# Altium schematic symbol library Diodes.SchLib: 448 symbols (part 2 of 10)
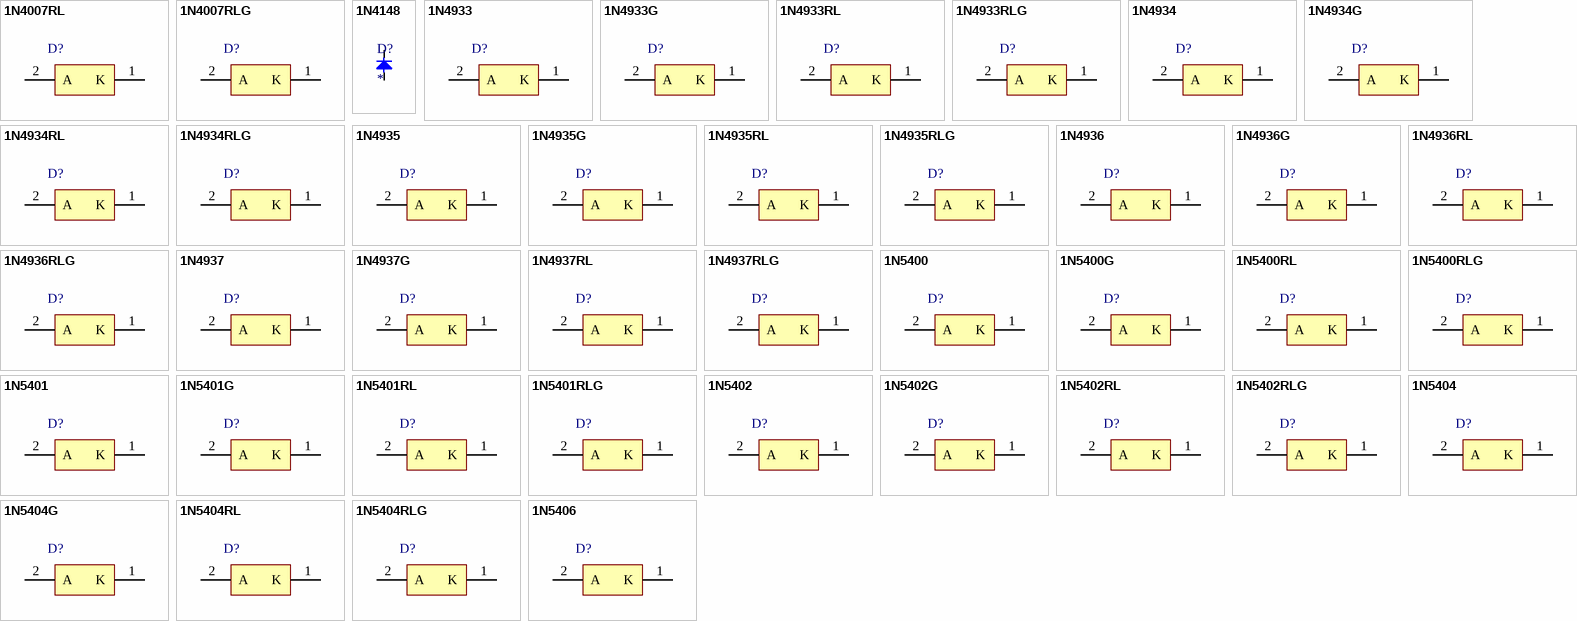
[diagram p12: symbols 1N4007RL to 1N5406]

## 1N4934RL
designator D?
Fast-Recovery Rectifier, 2-Pin Axial_Lead, Pb-Free, Tape and Reel; Manufacturer: On Semiconductor; PartNumber: 1N4934RL; IFSM Max (A): 30; IO(rec) Max (A): 1; Type: Fast Recovery; VRRM Max (V): 100; DatasheetVersion: Rev. 12; PackageVersion: Rev. U, 02/2005; PackageReference: AXIAL_LEAD-2-59-10; PackageDescription: 2-Pin, Axial Lead, Diameter 2.35 mm; Supplier 1: Digi-Key; Supplier Part Number 1: 1N4934RLOSTR-ND; Supplier 2: Digi-Key; Supplier Part Number 2: 1N4934RLOSCT-ND; Supplier 3: Mouser; Supplier Part Number 3: 863-1N4934RL; Packing: Tape and Reel; RoHS: TRUE; Mounting Technology: Through Hole; ComponentLink1Description: Manufacturer URL; ComponentLink1URL: http://www.onsemi.com/; ComponentLink2Description: Datasheet; ComponentLink2URL: http://www.onsemi.com/pub_link/Collateral/1N4933-D.PDF; ComponentLink3Description: Package Specification; ComponentLink3URL: http://www.onsemi.cn/pub_link/Collateral/59-10.PDF
footprint ONSC-AXIAL_LEAD-2-59-10_P (AXIAL, 2-Leads, Diameter 2.35mm)
pins: 1 K, 2 A

## 1N4934RLG
designator D?
Fast-Recovery Rectifier, 2-Pin Axial_Lead, Pb-Free, Tape and Reel; Manufacturer: On Semiconductor; PartNumber: 1N4934RLG; IFSM Max (A): 30; IO(rec) Max (A): 1; Type: Fast Recovery; VRRM Max (V): 100; DatasheetVersion: Rev. 12; PackageVersion: Rev. U, 02/2005; PackageReference: AXIAL_LEAD-2-59-10; PackageDescription: 2-Pin, Axial Lead, Diameter 2.35 mm; Supplier 1: Digi-Key; Supplier Part Number 1: 1N4934RLGOSTR-ND; Supplier 2: Digi-Key; Supplier Part Number 2: 1N4934RLGOSCT-ND; Supplier 3: Farnell; Supplier Part Number 3: 1278509; Supplier 4: Farnell; Supplier Part Number 4: 2369362; Supplier 5: Newark; Supplier Part Number 5: 84K8830; Supplier 6: Mouser; Supplier Part Number 6: 863-1N4934RLG; Packing: Tape and Reel; RoHS: TRUE; Mounting Technology: Through Hole; ComponentLink1Description: Manufacturer URL; ComponentLink1URL: http://www.onsemi.com/; ComponentLink2Description: Datasheet; ComponentLink2URL: http://www.onsemi.com/pub_link/Collateral/1N4933-D.PDF; ComponentLink3Description: Package Specification; ComponentLink3URL: http://www.onsemi.cn/pub_link/Collateral/59-10.PDF
footprint ONSC-AXIAL_LEAD-2-59-10_P (AXIAL, 2-Leads, Diameter 2.35mm)
pins: 1 K, 2 A

## 1N4935
designator D?
Fast-Recovery Rectifier, 2-Pin Axial_Lead, Pb-Free, Bulk Bag; Manufacturer: On Semiconductor; PartNumber: 1N4935; IFSM Max (A): 30; IO(rec) Max (A): 1; Type: Fast Recovery; VRRM Max (V): 200; DatasheetVersion: Rev. 12; PackageVersion: Rev. U, 02/2005; PackageReference: AXIAL_LEAD-2-59-10; PackageDescription: 2-Pin, Axial Lead, Diameter 2.35 mm; Supplier 1: Digi-Key; Supplier Part Number 1: 1N4935OS-ND; Packing: Bulk Bag; RoHS: TRUE; Mounting Technology: Through Hole; ComponentLink1Description: Manufacturer URL; ComponentLink1URL: http://www.onsemi.com/; ComponentLink2Description: Datasheet; ComponentLink2URL: http://www.onsemi.com/pub_link/Collateral/1N4933-D.PDF; ComponentLink3Description: Package Specification; ComponentLink3URL: http://www.onsemi.cn/pub_link/Collateral/59-10.PDF
footprint ONSC-AXIAL_LEAD-2-59-10_P (AXIAL, 2-Leads, Diameter 2.35mm)
pins: 1 K, 2 A

## 1N4935G
designator D?
Fast-Recovery Rectifier, 2-Pin Axial_Lead, Pb-Free, Bulk Bag; Manufacturer: On Semiconductor; PartNumber: 1N4935G; IFSM Max (A): 30; IO(rec) Max (A): 1; Type: Fast Recovery; VRRM Max (V): 200; DatasheetVersion: Rev. 12; PackageVersion: Rev. U, 02/2005; PackageReference: AXIAL_LEAD-2-59-10; PackageDescription: 2-Pin, Axial Lead, Diameter 2.35 mm; Supplier 1: Digi-Key; Supplier Part Number 1: 1N4935GOS-ND; Supplier 2: Farnell; Supplier Part Number 2: 1126305; Supplier 3: Newark; Supplier Part Number 3: 42K2837; Supplier 4: Mouser; Supplier Part Number 4: 863-1N4935G; Packing: Bulk Bag; RoHS: TRUE; Mounting Technology: Through Hole; ComponentLink1Description: Manufacturer URL; ComponentLink1URL: http://www.onsemi.com/; ComponentLink2Description: Datasheet; ComponentLink2URL: http://www.onsemi.com/pub_link/Collateral/1N4933-D.PDF; ComponentLink3Description: Package Specification; ComponentLink3URL: http://www.onsemi.cn/pub_link/Collateral/59-10.PDF
footprint ONSC-AXIAL_LEAD-2-59-10_P (AXIAL, 2-Leads, Diameter 2.35mm)
pins: 1 K, 2 A

## 1N4935RL
designator D?
Fast-Recovery Rectifier, 2-Pin Axial_Lead, Pb-Free, Tape and Reel; Manufacturer: On Semiconductor; PartNumber: 1N4935RL; IFSM Max (A): 30; IO(rec) Max (A): 1; Type: Fast Recovery; VRRM Max (V): 200; DatasheetVersion: Rev. 12; PackageVersion: Rev. U, 02/2005; PackageReference: AXIAL_LEAD-2-59-10; PackageDescription: 2-Pin, Axial Lead, Diameter 2.35 mm; Supplier 1: Digi-Key; Supplier Part Number 1: 1N4935RLOSTR-ND; Supplier 2: Digi-Key; Supplier Part Number 2: 1N4935RLOSCT-ND; Supplier 3: Mouser; Supplier Part Number 3: 863-1N4935RL; Packing: Tape and Reel; RoHS: TRUE; Mounting Technology: Through Hole; ComponentLink1Description: Manufacturer URL; ComponentLink1URL: http://www.onsemi.com/; ComponentLink2Description: Datasheet; ComponentLink2URL: http://www.onsemi.com/pub_link/Collateral/1N4933-D.PDF; ComponentLink3Description: Package Specification; ComponentLink3URL: http://www.onsemi.cn/pub_link/Collateral/59-10.PDF
footprint ONSC-AXIAL_LEAD-2-59-10_P (AXIAL, 2-Leads, Diameter 2.35mm)
pins: 1 K, 2 A

## 1N4935RLG
designator D?
Fast-Recovery Rectifier, 2-Pin Axial_Lead, Pb-Free, Tape and Reel; Manufacturer: On Semiconductor; PartNumber: 1N4935RLG; IFSM Max (A): 30; IO(rec) Max (A): 1; Type: Fast Recovery; VRRM Max (V): 200; DatasheetVersion: Rev. 12; PackageVersion: Rev. U, 02/2005; PackageReference: AXIAL_LEAD-2-59-10; PackageDescription: 2-Pin, Axial Lead, Diameter 2.35 mm; Supplier 1: Digi-Key; Supplier Part Number 1: 1N4935RLGOSTR-ND; Supplier 2: Digi-Key; Supplier Part Number 2: 1N4935RLGOSCT-ND; Supplier 3: Newark; Supplier Part Number 3: 42K2838; Supplier 4: Newark; Supplier Part Number 4: 84K8831; Supplier 5: Mouser; Supplier Part Number 5: 863-1N4935RLG; Packing: Tape and Reel; RoHS: TRUE; Mounting Technology: Through Hole; ComponentLink1Description: Manufacturer URL; ComponentLink1URL: http://www.onsemi.com/; ComponentLink2Description: Datasheet; ComponentLink2URL: http://www.onsemi.com/pub_link/Collateral/1N4933-D.PDF; ComponentLink3Description: Package Specification; ComponentLink3URL: http://www.onsemi.cn/pub_link/Collateral/59-10.PDF
footprint ONSC-AXIAL_LEAD-2-59-10_P (AXIAL, 2-Leads, Diameter 2.35mm)
pins: 1 K, 2 A

## 1N4936
designator D?
Fast-Recovery Rectifier, 2-Pin Axial_Lead, Pb-Free, Bulk Bag; Manufacturer: On Semiconductor; PartNumber: 1N4936; IFSM Max (A): 30; IO(rec) Max (A): 1; Type: Fast Recovery; VRRM Max (V): 400; DatasheetVersion: Rev. 12; PackageVersion: Rev. U, 02/2005; PackageReference: AXIAL_LEAD-2-59-10; PackageDescription: 2-Pin, Axial Lead, Diameter 2.35 mm; Supplier 1: Digi-Key; Supplier Part Number 1: 1N4936OS-ND; Packing: Bulk Bag; RoHS: TRUE; Mounting Technology: Through Hole; ComponentLink1Description: Manufacturer URL; ComponentLink1URL: http://www.onsemi.com/; ComponentLink2Description: Datasheet; ComponentLink2URL: http://www.onsemi.com/pub_link/Collateral/1N4933-D.PDF; ComponentLink3Description: Package Specification; ComponentLink3URL: http://www.onsemi.cn/pub_link/Collateral/59-10.PDF
footprint ONSC-AXIAL_LEAD-2-59-10_P (AXIAL, 2-Leads, Diameter 2.35mm)
pins: 1 K, 2 A

## 1N4936G
designator D?
Fast-Recovery Rectifier, 2-Pin Axial_Lead, Pb-Free, Bulk Bag; Manufacturer: On Semiconductor; PartNumber: 1N4936G; IFSM Max (A): 30; IO(rec) Max (A): 1; Type: Fast Recovery; VRRM Max (V): 400; DatasheetVersion: Rev. 12; PackageVersion: Rev. U, 02/2005; PackageReference: AXIAL_LEAD-2-59-10; PackageDescription: 2-Pin, Axial Lead, Diameter 2.35 mm; Supplier 1: Digi-Key; Supplier Part Number 1: 1N4936GOS-ND; Supplier 2: Farnell; Supplier Part Number 2: 1126306; Supplier 3: Newark; Supplier Part Number 3: 42K2839; Supplier 4: Mouser; Supplier Part Number 4: 863-1N4936G; Packing: Bulk Bag; RoHS: TRUE; Mounting Technology: Through Hole; ComponentLink1Description: Manufacturer URL; ComponentLink1URL: http://www.onsemi.com/; ComponentLink2Description: Datasheet; ComponentLink2URL: http://www.onsemi.com/pub_link/Collateral/1N4933-D.PDF; ComponentLink3Description: Package Specification; ComponentLink3URL: http://www.onsemi.cn/pub_link/Collateral/59-10.PDF
footprint ONSC-AXIAL_LEAD-2-59-10_P (AXIAL, 2-Leads, Diameter 2.35mm)
pins: 1 K, 2 A

## 1N4936RL
designator D?
Fast-Recovery Rectifier, 2-Pin Axial_Lead, Pb-Free, Tape and Reel; Manufacturer: On Semiconductor; PartNumber: 1N4936RL; IFSM Max (A): 30; IO(rec) Max (A): 1; Type: Fast Recovery; VRRM Max (V): 400; DatasheetVersion: Rev. 12; PackageVersion: Rev. U, 02/2005; PackageReference: AXIAL_LEAD-2-59-10; PackageDescription: 2-Pin, Axial Lead, Diameter 2.35 mm; Supplier 1: Digi-Key; Supplier Part Number 1: 1N4936RLOSTR-ND; Supplier 2: Digi-Key; Supplier Part Number 2: 1N4936RLOSCT-ND; Supplier 3: Mouser; Supplier Part Number 3: 863-1N4936RL; Packing: Tape and Reel; RoHS: TRUE; Mounting Technology: Through Hole; ComponentLink1Description: Manufacturer URL; ComponentLink1URL: http://www.onsemi.com/; ComponentLink2Description: Datasheet; ComponentLink2URL: http://www.onsemi.com/pub_link/Collateral/1N4933-D.PDF; ComponentLink3Description: Package Specification; ComponentLink3URL: http://www.onsemi.cn/pub_link/Collateral/59-10.PDF
footprint ONSC-AXIAL_LEAD-2-59-10_P (AXIAL, 2-Leads, Diameter 2.35mm)
pins: 1 K, 2 A

## 1N4936RLG
designator D?
Fast-Recovery Rectifier, 2-Pin Axial_Lead, Pb-Free, Tape and Reel; Manufacturer: On Semiconductor; PartNumber: 1N4936RLG; IFSM Max (A): 30; IO(rec) Max (A): 1; Type: Fast Recovery; VRRM Max (V): 400; DatasheetVersion: Rev. 12; PackageVersion: Rev. U, 02/2005; PackageReference: AXIAL_LEAD-2-59-10; PackageDescription: 2-Pin, Axial Lead, Diameter 2.35 mm; Supplier 1: Digi-Key; Supplier Part Number 1: 1N4936RLGOSTR-ND; Supplier 2: Digi-Key; Supplier Part Number 2: 1N4936RLGOSCT-ND; Supplier 3: Newark; Supplier Part Number 3: 84K8832; Supplier 4: Newark; Supplier Part Number 4: 42K2840; Supplier 5: Mouser; Supplier Part Number 5: 863-1N4936RLG; Packing: Tape and Reel; RoHS: TRUE; Mounting Technology: Through Hole; ComponentLink1Description: Manufacturer URL; ComponentLink1URL: http://www.onsemi.com/; ComponentLink2Description: Datasheet; ComponentLink2URL: http://www.onsemi.com/pub_link/Collateral/1N4933-D.PDF; ComponentLink3Description: Package Specification; ComponentLink3URL: http://www.onsemi.cn/pub_link/Collateral/59-10.PDF
footprint ONSC-AXIAL_LEAD-2-59-10_P (AXIAL, 2-Leads, Diameter 2.35mm)
pins: 1 K, 2 A

## 1N4937
designator D?
Fast-Recovery Rectifier, 2-Pin Axial_Lead, Pb-Free, Bulk Bag; Manufacturer: On Semiconductor; PartNumber: 1N4937; IFSM Max (A): 30; IO(rec) Max (A): 1; Type: Fast Recovery; VRRM Max (V): 600; DatasheetVersion: Rev. 12; PackageVersion: Rev. U, 02/2005; PackageReference: AXIAL_LEAD-2-59-10; PackageDescription: 2-Pin, Axial Lead, Diameter 2.35 mm; Supplier 1: Digi-Key; Supplier Part Number 1: 1N4937OS-ND; Packing: Bulk Bag; RoHS: TRUE; Mounting Technology: Through Hole; ComponentLink1Description: Manufacturer URL; ComponentLink1URL: http://www.onsemi.com/; ComponentLink2Description: Datasheet; ComponentLink2URL: http://www.onsemi.com/pub_link/Collateral/1N4933-D.PDF; ComponentLink3Description: Package Specification; ComponentLink3URL: http://www.onsemi.cn/pub_link/Collateral/59-10.PDF
footprint ONSC-AXIAL_LEAD-2-59-10_P (AXIAL, 2-Leads, Diameter 2.35mm)
pins: 1 K, 2 A

## 1N4937G
designator D?
Fast-Recovery Rectifier, 2-Pin Axial_Lead, Pb-Free, Bulk Bag; Manufacturer: On Semiconductor; PartNumber: 1N4937G; IFSM Max (A): 30; IO(rec) Max (A): 1; Type: Fast Recovery; VRRM Max (V): 600; DatasheetVersion: Rev. 12; PackageVersion: Rev. U, 02/2005; PackageReference: AXIAL_LEAD-2-59-10; PackageDescription: 2-Pin, Axial Lead, Diameter 2.35 mm; Supplier 1: Digi-Key; Supplier Part Number 1: 1N4937GOS-ND; Supplier 2: Farnell; Supplier Part Number 2: 1126307; Supplier 3: Newark; Supplier Part Number 3: 42K2841; Supplier 4: Mouser; Supplier Part Number 4: 863-1N4937G; Packing: Bulk Bag; RoHS: TRUE; Mounting Technology: Through Hole; ComponentLink1Description: Manufacturer URL; ComponentLink1URL: http://www.onsemi.com/; ComponentLink2Description: Datasheet; ComponentLink2URL: http://www.onsemi.com/pub_link/Collateral/1N4933-D.PDF; ComponentLink3Description: Package Specification; ComponentLink3URL: http://www.onsemi.cn/pub_link/Collateral/59-10.PDF
footprint ONSC-AXIAL_LEAD-2-59-10_P (AXIAL, 2-Leads, Diameter 2.35mm)
pins: 1 K, 2 A

## 1N4937RL
designator D?
Fast-Recovery Rectifier, 2-Pin Axial_Lead, Pb-Free, Tape and Reel; Manufacturer: On Semiconductor; PartNumber: 1N4937RL; IFSM Max (A): 30; IO(rec) Max (A): 1; Type: Fast Recovery; VRRM Max (V): 600; DatasheetVersion: Rev. 12; PackageVersion: Rev. U, 02/2005; PackageReference: AXIAL_LEAD-2-59-10; PackageDescription: 2-Pin, Axial Lead, Diameter 2.35 mm; Supplier 1: Digi-Key; Supplier Part Number 1: 1N4937RLOSTR-ND; Supplier 2: Digi-Key; Supplier Part Number 2: 1N4937RLOSCT-ND; Supplier 3: Mouser; Supplier Part Number 3: 863-1N4937RL; Packing: Tape and Reel; RoHS: TRUE; Mounting Technology: Through Hole; ComponentLink1Description: Manufacturer URL; ComponentLink1URL: http://www.onsemi.com/; ComponentLink2Description: Datasheet; ComponentLink2URL: http://www.onsemi.com/pub_link/Collateral/1N4933-D.PDF; ComponentLink3Description: Package Specification; ComponentLink3URL: http://www.onsemi.cn/pub_link/Collateral/59-10.PDF
footprint ONSC-AXIAL_LEAD-2-59-10_P (AXIAL, 2-Leads, Diameter 2.35mm)
pins: 1 K, 2 A

## 1N4937RLG
designator D?
Fast-Recovery Rectifier, 2-Pin Axial_Lead, Pb-Free, Tape and Reel; Manufacturer: On Semiconductor; PartNumber: 1N4937RLG; IFSM Max (A): 30; IO(rec) Max (A): 1; Type: Fast Recovery; VRRM Max (V): 600; DatasheetVersion: Rev. 12; PackageVersion: Rev. U, 02/2005; PackageReference: AXIAL_LEAD-2-59-10; PackageDescription: 2-Pin, Axial Lead, Diameter 2.35 mm; Supplier 1: Digi-Key; Supplier Part Number 1: 1N4937RLGOSTR-ND; Supplier 2: Digi-Key; Supplier Part Number 2: 1N4937RLGOSCT-ND; Supplier 3: Farnell; Supplier Part Number 3: 2317434; Supplier 4: Farnell; Supplier Part Number 4: 1891033; Supplier 5: Newark; Supplier Part Number 5: 84K8833; Supplier 6: Newark; Supplier Part Number 6: 42K2842; Supplier 7: Mouser; Supplier Part Number 7: 863-1N4937RLG; Packing: Tape and Reel; RoHS: TRUE; Mounting Technology: Through Hole; ComponentLink1Description: Manufacturer URL; ComponentLink1URL: http://www.onsemi.com/; ComponentLink2Description: Datasheet; ComponentLink2URL: http://www.onsemi.com/pub_link/Collateral/1N4933-D.PDF; ComponentLink3Description: Package Specification; ComponentLink3URL: http://www.onsemi.cn/pub_link/Collateral/59-10.PDF
footprint ONSC-AXIAL_LEAD-2-59-10_P (AXIAL, 2-Leads, Diameter 2.35mm)
pins: 1 K, 2 A

## 1N5400
designator D?
Standard Recovery Rectifier, 2-Pin Axial_Lead, Pb-Free, Bulk Box; Manufacturer: On Semiconductor; PartNumber: 1N5400; IFSM Max (A): 200; IO(rec) Max (A): 3; VRRM Max (V): 50; DatasheetVersion: Rev. 10; PackageVersion: Rev. G, 06/2000; PackageReference: AXIAL_LEAD-2-267-05; PackageDescription: 2-Pin, Axial Lead, Diameter 5.05 mm; Supplier 1: Digi-Key; Supplier Part Number 1: 1N5400OS-ND; Packing: Bulk Box; RoHS: TRUE; Type: Standard Recovery; Mounting Technology: Through Hole; ComponentLink1Description: Manufacturer URL; ComponentLink1URL: http://www.onsemi.com/; ComponentLink2Description: Datasheet; ComponentLink2URL: http://www.onsemi.com/pub_link/Collateral/1N5400-D.PDF; ComponentLink3Description: Package Specification; ComponentLink3URL: http://www.onsemi.com/pub_link/Collateral/267-05.PDF
footprint ONSC-AXIAL_LEAD-2-267-05_V (AXIAL, 2-Leads, Diameter 5.05mm)
pins: 1 K, 2 A

## 1N5400G
designator D?
Standard Recovery Rectifier, 2-Pin Axial_Lead, Pb-Free, Bulk Box; Manufacturer: On Semiconductor; PartNumber: 1N5400G; IFSM Max (A): 200; IO(rec) Max (A): 3; VRRM Max (V): 50; DatasheetVersion: Rev. 10; PackageVersion: Rev. G, 06/2000; PackageReference: AXIAL_LEAD-2-267-05; PackageDescription: 2-Pin, Axial Lead, Diameter 5.05 mm; Supplier 1: Digi-Key; Supplier Part Number 1: 1N5400GOS-ND; Supplier 2: Farnell; Supplier Part Number 2: 1458988; Supplier 3: Newark; Supplier Part Number 3: 42K2929; Supplier 4: Mouser; Supplier Part Number 4: 863-1N5400G; Packing: Bulk Box; RoHS: TRUE; Type: Standard Recovery; Mounting Technology: Through Hole; ComponentLink1Description: Manufacturer URL; ComponentLink1URL: http://www.onsemi.com/; ComponentLink2Description: Datasheet; ComponentLink2URL: http://www.onsemi.com/pub_link/Collateral/1N5400-D.PDF; ComponentLink3Description: Package Specification; ComponentLink3URL: http://www.onsemi.com/pub_link/Collateral/267-05.PDF
footprint ONSC-AXIAL_LEAD-2-267-05_V (AXIAL, 2-Leads, Diameter 5.05mm)
pins: 1 K, 2 A

## 1N5400RL
designator D?
Standard Recovery Rectifier, 2-Pin Axial_Lead, Pb-Free, Tape and Reel; Manufacturer: On Semiconductor; PartNumber: 1N5400RL; IFSM Max (A): 200; IO(rec) Max (A): 3; VRRM Max (V): 50; DatasheetVersion: Rev. 10; PackageVersion: Rev. G, 06/2000; PackageReference: AXIAL_LEAD-2-267-05; PackageDescription: 2-Pin, Axial Lead, Diameter 5.05 mm; Supplier 1: Digi-Key; Supplier Part Number 1: 1N5400RLOSTR-ND; Supplier 2: Mouser; Supplier Part Number 2: 863-1N5400RL; Packing: Tape and Reel; RoHS: TRUE; Type: Standard Recovery; Mounting Technology: Through Hole; ComponentLink1Description: Manufacturer URL; ComponentLink1URL: http://www.onsemi.com/; ComponentLink2Description: Datasheet; ComponentLink2URL: http://www.onsemi.com/pub_link/Collateral/1N5400-D.PDF; ComponentLink3Description: Package Specification; ComponentLink3URL: http://www.onsemi.com/pub_link/Collateral/267-05.PDF
footprint ONSC-AXIAL_LEAD-2-267-05_V (AXIAL, 2-Leads, Diameter 5.05mm)
pins: 1 K, 2 A

## 1N5400RLG
designator D?
Standard Recovery Rectifier, 2-Pin Axial_Lead, Pb-Free, Tape and Reel; Manufacturer: On Semiconductor; PartNumber: 1N5400RLG; IFSM Max (A): 200; IO(rec) Max (A): 3; VRRM Max (V): 50; DatasheetVersion: Rev. 10; PackageVersion: Rev. G, 06/2000; PackageReference: AXIAL_LEAD-2-267-05; PackageDescription: 2-Pin, Axial Lead, Diameter 5.05 mm; Supplier 1: Digi-Key; Supplier Part Number 1: 1N5400RLGOSTR-ND; Supplier 2: Digi-Key; Supplier Part Number 2: 1N5400RLGOSCT-ND; Supplier 3: Farnell; Supplier Part Number 3: 1264226; Supplier 4: Farnell; Supplier Part Number 4: 1885826; Supplier 5: Newark; Supplier Part Number 5: 42K2930; Supplier 6: Newark; Supplier Part Number 6: 84K8834; Supplier 7: Mouser; Supplier Part Number 7: 863-1N5400RLG; Packing: Tape and Reel; RoHS: TRUE; Type: Standard Recovery; Mounting Technology: Through Hole; ComponentLink1Description: Manufacturer URL; ComponentLink1URL: http://www.onsemi.com/; ComponentLink2Description: Datasheet; ComponentLink2URL: http://www.onsemi.com/pub_link/Collateral/1N5400-D.PDF; ComponentLink3Description: Package Specification; ComponentLink3URL: http://www.onsemi.com/pub_link/Collateral/267-05.PDF
footprint ONSC-AXIAL_LEAD-2-267-05_V (AXIAL, 2-Leads, Diameter 5.05mm)
pins: 1 K, 2 A

## 1N5401
designator D?
Standard Recovery Rectifier, 2-Pin Axial_Lead, Pb-Free, Bulk Box; Manufacturer: On Semiconductor; PartNumber: 1N5401; IFSM Max (A): 200; IO(rec) Max (A): 3; VRRM Max (V): 100; DatasheetVersion: Rev. 10; PackageVersion: Rev. G, 06/2000; PackageReference: AXIAL_LEAD-2-267-05; PackageDescription: 2-Pin, Axial Lead, Diameter 5.05 mm; Supplier 1: Digi-Key; Supplier Part Number 1: 1N5401OS-ND; Packing: Bulk Box; RoHS: TRUE; Type: Standard Recovery; Mounting Technology: Through Hole; ComponentLink1Description: Manufacturer URL; ComponentLink1URL: http://www.onsemi.com/; ComponentLink2Description: Datasheet; ComponentLink2URL: http://www.onsemi.com/pub_link/Collateral/1N5400-D.PDF; ComponentLink3Description: Package Specification; ComponentLink3URL: http://www.onsemi.com/pub_link/Collateral/267-05.PDF
footprint ONSC-AXIAL_LEAD-2-267-05_V (AXIAL, 2-Leads, Diameter 5.05mm)
pins: 1 K, 2 A

## 1N5401G
designator D?
Standard Recovery Rectifier, 2-Pin Axial_Lead, Pb-Free, Bulk Box; Manufacturer: On Semiconductor; PartNumber: 1N5401G; IFSM Max (A): 200; IO(rec) Max (A): 3; VRRM Max (V): 100; DatasheetVersion: Rev. 10; PackageVersion: Rev. G, 06/2000; PackageReference: AXIAL_LEAD-2-267-05; PackageDescription: 2-Pin, Axial Lead, Diameter 5.05 mm; Supplier 1: Digi-Key; Supplier Part Number 1: 1N5401GOS-ND; Supplier 2: Farnell; Supplier Part Number 2: 1126311; Supplier 3: Newark; Supplier Part Number 3: 42K2931; Supplier 4: Mouser; Supplier Part Number 4: 863-1N5401G; Packing: Bulk Box; RoHS: TRUE; Type: Standard Recovery; Mounting Technology: Through Hole; ComponentLink1Description: Manufacturer URL; ComponentLink1URL: http://www.onsemi.com/; ComponentLink2Description: Datasheet; ComponentLink2URL: http://www.onsemi.com/pub_link/Collateral/1N5400-D.PDF; ComponentLink3Description: Package Specification; ComponentLink3URL: http://www.onsemi.com/pub_link/Collateral/267-05.PDF
footprint ONSC-AXIAL_LEAD-2-267-05_V (AXIAL, 2-Leads, Diameter 5.05mm)
pins: 1 K, 2 A

## 1N5401RL
designator D?
Standard Recovery Rectifier, 2-Pin Axial_Lead, Pb-Free, Tape and Reel; Manufacturer: On Semiconductor; PartNumber: 1N5401RL; IFSM Max (A): 200; IO(rec) Max (A): 3; VRRM Max (V): 100; DatasheetVersion: Rev. 10; PackageVersion: Rev. G, 06/2000; PackageReference: AXIAL_LEAD-2-267-05; PackageDescription: 2-Pin, Axial Lead, Diameter 5.05 mm; Supplier 1: Digi-Key; Supplier Part Number 1: 1N5401RLOSTR-ND; Supplier 2: Digi-Key; Supplier Part Number 2: 1N5401RLOSCT-ND; Supplier 3: Farnell; Supplier Part Number 3: 9556125; Supplier 4: Newark; Supplier Part Number 4: 39K0641; Supplier 5: Mouser; Supplier Part Number 5: 863-1N5401RL; Packing: Tape and Reel; RoHS: TRUE; Type: Standard Recovery; Mounting Technology: Through Hole; ComponentLink1Description: Manufacturer URL; ComponentLink1URL: http://www.onsemi.com/; ComponentLink2Description: Datasheet; ComponentLink2URL: http://www.onsemi.com/pub_link/Collateral/1N5400-D.PDF; ComponentLink3Description: Package Specification; ComponentLink3URL: http://www.onsemi.com/pub_link/Collateral/267-05.PDF
footprint ONSC-AXIAL_LEAD-2-267-05_V (AXIAL, 2-Leads, Diameter 5.05mm)
pins: 1 K, 2 A

## 1N5401RLG
designator D?
Standard Recovery Rectifier, 2-Pin Axial_Lead, Pb-Free, Tape and Reel; Manufacturer: On Semiconductor; PartNumber: 1N5401RLG; IFSM Max (A): 200; IO(rec) Max (A): 3; VRRM Max (V): 100; DatasheetVersion: Rev. 10; PackageVersion: Rev. G, 06/2000; PackageReference: AXIAL_LEAD-2-267-05; PackageDescription: 2-Pin, Axial Lead, Diameter 5.05 mm; Supplier 1: Digi-Key; Supplier Part Number 1: 1N5401RLGOSTR-ND; Supplier 2: Digi-Key; Supplier Part Number 2: 1N5401RLGOSCT-ND; Supplier 3: Farnell; Supplier Part Number 3: 2317671; Supplier 4: Newark; Supplier Part Number 4: 85W2881; Supplier 5: Newark; Supplier Part Number 5: 42K2932; Supplier 6: Mouser; Supplier Part Number 6: 863-1N5401RLG; Packing: Tape and Reel; RoHS: TRUE; Type: Standard Recovery; Mounting Technology: Through Hole; ComponentLink1Description: Manufacturer URL; ComponentLink1URL: http://www.onsemi.com/; ComponentLink2Description: Datasheet; ComponentLink2URL: http://www.onsemi.com/pub_link/Collateral/1N5400-D.PDF; ComponentLink3Description: Package Specification; ComponentLink3URL: http://www.onsemi.com/pub_link/Collateral/267-05.PDF
footprint ONSC-AXIAL_LEAD-2-267-05_V (AXIAL, 2-Leads, Diameter 5.05mm)
pins: 1 K, 2 A

## 1N5402
designator D?
Standard Recovery Rectifier, 2-Pin Axial_Lead, Pb-Free, Bulk Box; Manufacturer: On Semiconductor; PartNumber: 1N5402; IFSM Max (A): 200; IO(rec) Max (A): 3; DatasheetVersion: Rev. 10; PackageVersion: Rev. G, 06/2000; PackageReference: AXIAL_LEAD-2-267-05; PackageDescription: 2-Pin, Axial Lead, Diameter 5.05 mm; Supplier 1: Digi-Key; Supplier Part Number 1: 1N5402OS-ND; Packing: Bulk Box; RoHS: TRUE; Type: Standard Recovery; VRRM Max (V): 200; Mounting Technology: Through Hole; ComponentLink1Description: Manufacturer URL; ComponentLink1URL: http://www.onsemi.com/; ComponentLink2Description: Datasheet; ComponentLink2URL: http://www.onsemi.com/pub_link/Collateral/1N5400-D.PDF; ComponentLink3Description: Package Specification; ComponentLink3URL: http://www.onsemi.com/pub_link/Collateral/267-05.PDF
footprint ONSC-AXIAL_LEAD-2-267-05_V (AXIAL, 2-Leads, Diameter 5.05mm)
pins: 1 K, 2 A

## 1N5402G
designator D?
Standard Recovery Rectifier, 2-Pin Axial_Lead, Pb-Free, Bulk Box; Manufacturer: On Semiconductor; PartNumber: 1N5402G; IFSM Max (A): 200; IO(rec) Max (A): 3; DatasheetVersion: Rev. 10; PackageVersion: Rev. G, 06/2000; PackageReference: AXIAL_LEAD-2-267-05; PackageDescription: 2-Pin, Axial Lead, Diameter 5.05 mm; Supplier 1: Digi-Key; Supplier Part Number 1: 1N5402GOS-ND; Supplier 2: Farnell; Supplier Part Number 2: 1126312; Supplier 3: Newark; Supplier Part Number 3: 42K2933; Supplier 4: Mouser; Supplier Part Number 4: 863-1N5402G; Packing: Bulk Box; RoHS: TRUE; Type: Standard Recovery; VRRM Max (V): 200; Mounting Technology: Through Hole; ComponentLink1Description: Manufacturer URL; ComponentLink1URL: http://www.onsemi.com/; ComponentLink2Description: Datasheet; ComponentLink2URL: http://www.onsemi.com/pub_link/Collateral/1N5400-D.PDF; ComponentLink3Description: Package Specification; ComponentLink3URL: http://www.onsemi.com/pub_link/Collateral/267-05.PDF
footprint ONSC-AXIAL_LEAD-2-267-05_V (AXIAL, 2-Leads, Diameter 5.05mm)
pins: 1 K, 2 A

## 1N5402RL
designator D?
Standard Recovery Rectifier, 2-Pin Axial_Lead, Pb-Free, Tape and Reel; Manufacturer: On Semiconductor; PartNumber: 1N5402RL; IFSM Max (A): 200; IO(rec) Max (A): 3; DatasheetVersion: Rev. 10; PackageVersion: Rev. G, 06/2000; PackageReference: AXIAL_LEAD-2-267-05; PackageDescription: 2-Pin, Axial Lead, Diameter 5.05 mm; Supplier 1: Digi-Key; Supplier Part Number 1: 1N5402RLOSTR-ND; Supplier 2: Digi-Key; Supplier Part Number 2: 1N5402RLOSCT-ND; Supplier 3: Farnell; Supplier Part Number 3: 9556133; Supplier 4: Newark; Supplier Part Number 4: 39K0642; Supplier 5: Mouser; Supplier Part Number 5: 863-1N5402RL; Packing: Tape and Reel; RoHS: TRUE; Type: Standard Recovery; VRRM Max (V): 200; Mounting Technology: Through Hole; ComponentLink1Description: Manufacturer URL; ComponentLink1URL: http://www.onsemi.com/; ComponentLink2Description: Datasheet; ComponentLink2URL: http://www.onsemi.com/pub_link/Collateral/1N5400-D.PDF; ComponentLink3Description: Package Specification; ComponentLink3URL: http://www.onsemi.com/pub_link/Collateral/267-05.PDF
footprint ONSC-AXIAL_LEAD-2-267-05_V (AXIAL, 2-Leads, Diameter 5.05mm)
pins: 1 K, 2 A

## 1N5402RLG
designator D?
Standard Recovery Rectifier, 2-Pin Axial_Lead, Pb-Free, Tape and Reel; Manufacturer: On Semiconductor; PartNumber: 1N5402RLG; IFSM Max (A): 200; IO(rec) Max (A): 3; DatasheetVersion: Rev. 10; PackageVersion: Rev. G, 06/2000; PackageReference: AXIAL_LEAD-2-267-05; PackageDescription: 2-Pin, Axial Lead, Diameter 5.05 mm; Supplier 1: Digi-Key; Supplier Part Number 1: 1N5402RLGOSTR-ND; Supplier 2: Digi-Key; Supplier Part Number 2: 1N5402RLGOSCT-ND; Supplier 3: Farnell; Supplier Part Number 3: 1266206; Supplier 4: Farnell; Supplier Part Number 4: 1889172; Supplier 5: Newark; Supplier Part Number 5: 42K2934; Supplier 6: Newark; Supplier Part Number 6: 84K8835; Supplier 7: Mouser; Supplier Part Number 7: 863-1N5402RLG; Packing: Tape and Reel; RoHS: TRUE; Type: Standard Recovery; VRRM Max (V): 200; Mounting Technology: Through Hole; ComponentLink1Description: Manufacturer URL; ComponentLink1URL: http://www.onsemi.com/; ComponentLink2Description: Datasheet; ComponentLink2URL: http://www.onsemi.com/pub_link/Collateral/1N5400-D.PDF; ComponentLink3Description: Package Specification; ComponentLink3URL: http://www.onsemi.com/pub_link/Collateral/267-05.PDF
footprint ONSC-AXIAL_LEAD-2-267-05_V (AXIAL, 2-Leads, Diameter 5.05mm)
pins: 1 K, 2 A

## 1N5404
designator D?
Standard Recovery Rectifier, 2-Pin Axial_Lead, Pb-Free, Bulk Box; Manufacturer: On Semiconductor; PartNumber: 1N5404; IFSM Max (A): 200; IO(rec) Max (A): 3; VRRM Max (V): 400; DatasheetVersion: Rev. 10; PackageVersion: Rev. G, 06/2000; PackageReference: AXIAL_LEAD-2-267-05; PackageDescription: 2-Pin, Axial Lead, Diameter 5.05 mm; Supplier 1: Digi-Key; Supplier Part Number 1: 1N5404OS-ND; Packing: Bulk Box; RoHS: TRUE; Type: Standard Recovery; Mounting Technology: Through Hole; ComponentLink1Description: Manufacturer URL; ComponentLink1URL: http://www.onsemi.com/; ComponentLink2Description: Datasheet; ComponentLink2URL: http://www.onsemi.com/pub_link/Collateral/1N5400-D.PDF; ComponentLink3Description: Package Specification; ComponentLink3URL: http://www.onsemi.com/pub_link/Collateral/267-05.PDF
footprint ONSC-AXIAL_LEAD-2-267-05_V (AXIAL, 2-Leads, Diameter 5.05mm)
pins: 1 K, 2 A

## 1N5404G
designator D?
Standard Recovery Rectifier, 2-Pin Axial_Lead, Pb-Free, Bulk Box; Manufacturer: On Semiconductor; PartNumber: 1N5404G; IFSM Max (A): 200; IO(rec) Max (A): 3; VRRM Max (V): 400; DatasheetVersion: Rev. 10; PackageVersion: Rev. G, 06/2000; PackageReference: AXIAL_LEAD-2-267-05; PackageDescription: 2-Pin, Axial Lead, Diameter 5.05 mm; Supplier 1: Digi-Key; Supplier Part Number 1: 1N5404GOS-ND; Supplier 2: Farnell; Supplier Part Number 2: 1126314; Supplier 3: Newark; Supplier Part Number 3: 42K2935; Supplier 4: Mouser; Supplier Part Number 4: 863-1N5404G; Packing: Bulk Box; RoHS: TRUE; Type: Standard Recovery; Mounting Technology: Through Hole; ComponentLink1Description: Manufacturer URL; ComponentLink1URL: http://www.onsemi.com/; ComponentLink2Description: Datasheet; ComponentLink2URL: http://www.onsemi.com/pub_link/Collateral/1N5400-D.PDF; ComponentLink3Description: Package Specification; ComponentLink3URL: http://www.onsemi.com/pub_link/Collateral/267-05.PDF
footprint ONSC-AXIAL_LEAD-2-267-05_V (AXIAL, 2-Leads, Diameter 5.05mm)
pins: 1 K, 2 A

## 1N5404RL
designator D?
Standard Recovery Rectifier, 2-Pin Axial_Lead, Pb-Free, Tape and Reel; Manufacturer: On Semiconductor; PartNumber: 1N5404RL; IFSM Max (A): 200; IO(rec) Max (A): 3; VRRM Max (V): 400; DatasheetVersion: Rev. 10; PackageVersion: Rev. G, 06/2000; PackageReference: AXIAL_LEAD-2-267-05; PackageDescription: 2-Pin, Axial Lead, Diameter 5.05 mm; Supplier 1: Digi-Key; Supplier Part Number 1: 1N5404RLOSTR-ND; Supplier 2: Digi-Key; Supplier Part Number 2: 1N5404RLOSCT-ND; Supplier 3: Farnell; Supplier Part Number 3: 9556141; Supplier 4: Newark; Supplier Part Number 4: 39K0643; Supplier 5: Mouser; Supplier Part Number 5: 863-1N5404RL; Packing: Tape and Reel; RoHS: TRUE; Type: Standard Recovery; Mounting Technology: Through Hole; ComponentLink1Description: Manufacturer URL; ComponentLink1URL: http://www.onsemi.com/; ComponentLink2Description: Datasheet; ComponentLink2URL: http://www.onsemi.com/pub_link/Collateral/1N5400-D.PDF; ComponentLink3Description: Package Specification; ComponentLink3URL: http://www.onsemi.com/pub_link/Collateral/267-05.PDF
footprint ONSC-AXIAL_LEAD-2-267-05_V (AXIAL, 2-Leads, Diameter 5.05mm)
pins: 1 K, 2 A

## 1N5404RLG
designator D?
Standard Recovery Rectifier, 2-Pin Axial_Lead, Pb-Free, Tape and Reel; Manufacturer: On Semiconductor; PartNumber: 1N5404RLG; IFSM Max (A): 200; IO(rec) Max (A): 3; VRRM Max (V): 400; DatasheetVersion: Rev. 10; PackageVersion: Rev. G, 06/2000; PackageReference: AXIAL_LEAD-2-267-05; PackageDescription: 2-Pin, Axial Lead, Diameter 5.05 mm; Supplier 1: Digi-Key; Supplier Part Number 1: 1N5404RLGOSTR-ND; Supplier 2: Digi-Key; Supplier Part Number 2: 1N5404RLGOSCT-ND; Supplier 3: Farnell; Supplier Part Number 3: 2317686; Supplier 4: Farnell; Supplier Part Number 4: 1266207; Supplier 5: Newark; Supplier Part Number 5: 42K2936; Supplier 6: Newark; Supplier Part Number 6: 84K8836; Supplier 7: Mouser; Supplier Part Number 7: 863-1N5404RLG; Packing: Tape and Reel; RoHS: TRUE; Type: Standard Recovery; Mounting Technology: Through Hole; ComponentLink1Description: Manufacturer URL; ComponentLink1URL: http://www.onsemi.com/; ComponentLink2Description: Datasheet; ComponentLink2URL: http://www.onsemi.com/pub_link/Collateral/1N5400-D.PDF; ComponentLink3Description: Package Specification; ComponentLink3URL: http://www.onsemi.com/pub_link/Collateral/267-05.PDF
footprint ONSC-AXIAL_LEAD-2-267-05_V (AXIAL, 2-Leads, Diameter 5.05mm)
pins: 1 K, 2 A

## 1N5406
designator D?
Standard Recovery Rectifier, 2-Pin Axial_Lead, Pb-Free, Bulk Box; Manufacturer: On Semiconductor; PartNumber: 1N5406; IFSM Max (A): 200; IO(rec) Max (A): 3; VRRM Max (V): 600; DatasheetVersion: Rev. 10; PackageVersion: Rev. G, 06/2000; PackageReference: AXIAL_LEAD-2-267-05; PackageDescription: 2-Pin, Axial Lead, Diameter 5.05 mm; Supplier 1: Digi-Key; Supplier Part Number 1: 1N5406OS-ND; Packing: Bulk Box; RoHS: TRUE; Type: Standard Recovery; Mounting Technology: Through Hole; ComponentLink1Description: Manufacturer URL; ComponentLink1URL: http://www.onsemi.com/; ComponentLink2Description: Datasheet; ComponentLink2URL: http://www.onsemi.com/pub_link/Collateral/1N5400-D.PDF; ComponentLink3Description: Package Specification; ComponentLink3URL: http://www.onsemi.com/pub_link/Collateral/267-05.PDF
footprint ONSC-AXIAL_LEAD-2-267-05_V (AXIAL, 2-Leads, Diameter 5.05mm)
pins: 1 K, 2 A

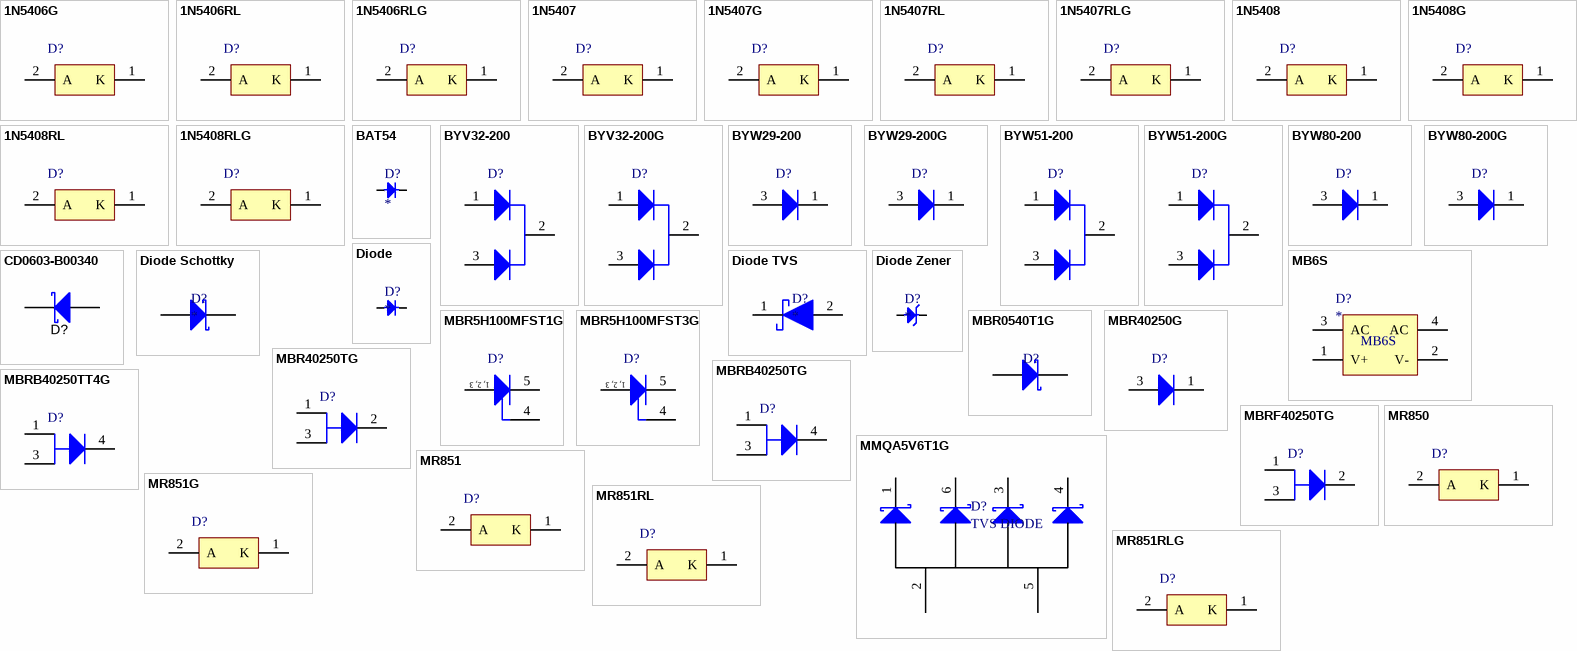
[diagram p2: symbols 1N5406G to MR851RLG]

## 1N5406G
designator D?
Standard Recovery Rectifier, 2-Pin Axial_Lead, Pb-Free, Bulk Box; Manufacturer: On Semiconductor; PartNumber: 1N5406G; IFSM Max (A): 200; IO(rec) Max (A): 3; VRRM Max (V): 600; DatasheetVersion: Rev. 10; PackageVersion: Rev. G, 06/2000; PackageReference: AXIAL_LEAD-2-267-05; PackageDescription: 2-Pin, Axial Lead, Diameter 5.05 mm; Supplier 1: Digi-Key; Supplier Part Number 1: 1N5406GOS-ND; Supplier 2: Newark; Supplier Part Number 2: 42K2937; Supplier 3: Mouser; Supplier Part Number 3: 863-1N5406G; Packing: Bulk Box; RoHS: TRUE; Type: Standard Recovery; Mounting Technology: Through Hole; ComponentLink1Description: Manufacturer URL; ComponentLink1URL: http://www.onsemi.com/; ComponentLink2Description: Datasheet; ComponentLink2URL: http://www.onsemi.com/pub_link/Collateral/1N5400-D.PDF; ComponentLink3Description: Package Specification; ComponentLink3URL: http://www.onsemi.com/pub_link/Collateral/267-05.PDF
footprint ONSC-AXIAL_LEAD-2-267-05_V (AXIAL, 2-Leads, Diameter 5.05mm)
pins: 1 K, 2 A

## 1N5406RL
designator D?
Standard Recovery Rectifier, 2-Pin Axial_Lead, Pb-Free, Tape and Reel; Manufacturer: On Semiconductor; PartNumber: 1N5406RL; IFSM Max (A): 200; IO(rec) Max (A): 3; VRRM Max (V): 600; DatasheetVersion: Rev. 10; PackageVersion: Rev. G, 06/2000; PackageReference: AXIAL_LEAD-2-267-05; PackageDescription: 2-Pin, Axial Lead, Diameter 5.05 mm; Supplier 1: Digi-Key; Supplier Part Number 1: 1N5406RLOSTR-ND; Supplier 2: Digi-Key; Supplier Part Number 2: 1N5406RLOSCT-ND; Supplier 3: Mouser; Supplier Part Number 3: 863-1N5406RL; Packing: Tape and Reel; RoHS: TRUE; Type: Standard Recovery; Mounting Technology: Through Hole; ComponentLink1Description: Manufacturer URL; ComponentLink1URL: http://www.onsemi.com/; ComponentLink2Description: Datasheet; ComponentLink2URL: http://www.onsemi.com/pub_link/Collateral/1N5400-D.PDF; ComponentLink3Description: Package Specification; ComponentLink3URL: http://www.onsemi.com/pub_link/Collateral/267-05.PDF
footprint ONSC-AXIAL_LEAD-2-267-05_V (AXIAL, 2-Leads, Diameter 5.05mm)
pins: 1 K, 2 A

## 1N5406RLG
designator D?
Standard Recovery Rectifier, 2-Pin Axial_Lead, Pb-Free, Tape and Reel; Manufacturer: On Semiconductor; PartNumber: 1N5406RLG; IFSM Max (A): 200; IO(rec) Max (A): 3; VRRM Max (V): 600; DatasheetVersion: Rev. 10; PackageVersion: Rev. G, 06/2000; PackageReference: AXIAL_LEAD-2-267-05; PackageDescription: 2-Pin, Axial Lead, Diameter 5.05 mm; Supplier 1: Digi-Key; Supplier Part Number 1: 1N5406RLGOSTR-ND; Supplier 2: Digi-Key; Supplier Part Number 2: 1N5406RLGOSCT-ND; Supplier 3: Newark; Supplier Part Number 3: 42K2938; Supplier 4: Mouser; Supplier Part Number 4: 863-1N5406RLG; Packing: Tape and Reel; RoHS: TRUE; Type: Standard Recovery; Mounting Technology: Through Hole; ComponentLink1Description: Manufacturer URL; ComponentLink1URL: http://www.onsemi.com/; ComponentLink2Description: Datasheet; ComponentLink2URL: http://www.onsemi.com/pub_link/Collateral/1N5400-D.PDF; ComponentLink3Description: Package Specification; ComponentLink3URL: http://www.onsemi.com/pub_link/Collateral/267-05.PDF
footprint ONSC-AXIAL_LEAD-2-267-05_V (AXIAL, 2-Leads, Diameter 5.05mm)
pins: 1 K, 2 A

## 1N5407
designator D?
Standard Recovery Rectifier, 2-Pin Axial_Lead, Pb-Free, Bulk Box; Manufacturer: On Semiconductor; PartNumber: 1N5407; IFSM Max (A): 200; IO(rec) Max (A): 3; VRRM Max (V): 800; DatasheetVersion: Rev. 10; PackageVersion: Rev. G, 06/2000; PackageReference: AXIAL_LEAD-2-267-05; PackageDescription: 2-Pin, Axial Lead, Diameter 5.05 mm; Supplier 1: Digi-Key; Supplier Part Number 1: 1N5407OS-ND; Packing: Bulk Box; RoHS: TRUE; Type: Standard Recovery; Mounting Technology: Through Hole; ComponentLink1Description: Manufacturer URL; ComponentLink1URL: http://www.onsemi.com/; ComponentLink2Description: Datasheet; ComponentLink2URL: http://www.onsemi.com/pub_link/Collateral/1N5400-D.PDF; ComponentLink3Description: Package Specification; ComponentLink3URL: http://www.onsemi.com/pub_link/Collateral/267-05.PDF
footprint ONSC-AXIAL_LEAD-2-267-05_V (AXIAL, 2-Leads, Diameter 5.05mm)
pins: 1 K, 2 A

## 1N5407G
designator D?
Standard Recovery Rectifier, 2-Pin Axial_Lead, Pb-Free, Bulk Box; Manufacturer: On Semiconductor; PartNumber: 1N5407G; IFSM Max (A): 200; IO(rec) Max (A): 3; VRRM Max (V): 800; DatasheetVersion: Rev. 10; PackageVersion: Rev. G, 06/2000; PackageReference: AXIAL_LEAD-2-267-05; PackageDescription: 2-Pin, Axial Lead, Diameter 5.05 mm; Supplier 1: Digi-Key; Supplier Part Number 1: 1N5407GOS-ND; Supplier 2: Farnell; Supplier Part Number 2: 1126316; Supplier 3: Newark; Supplier Part Number 3: 42K2939; Supplier 4: Mouser; Supplier Part Number 4: 863-1N5407G; Packing: Bulk Box; RoHS: TRUE; Type: Standard Recovery; Mounting Technology: Through Hole; ComponentLink1Description: Manufacturer URL; ComponentLink1URL: http://www.onsemi.com/; ComponentLink2Description: Datasheet; ComponentLink2URL: http://www.onsemi.com/pub_link/Collateral/1N5400-D.PDF; ComponentLink3Description: Package Specification; ComponentLink3URL: http://www.onsemi.com/pub_link/Collateral/267-05.PDF
footprint ONSC-AXIAL_LEAD-2-267-05_V (AXIAL, 2-Leads, Diameter 5.05mm)
pins: 1 K, 2 A

## 1N5407RL
designator D?
Standard Recovery Rectifier, 2-Pin Axial_Lead, Pb-Free, Tape and Reel; Manufacturer: On Semiconductor; PartNumber: 1N5407RL; IFSM Max (A): 200; IO(rec) Max (A): 3; VRRM Max (V): 800; DatasheetVersion: Rev. 10; PackageVersion: Rev. G, 06/2000; PackageReference: AXIAL_LEAD-2-267-05; PackageDescription: 2-Pin, Axial Lead, Diameter 5.05 mm; Supplier 1: Digi-Key; Supplier Part Number 1: 1N5407RL-ND; Supplier 2: Mouser; Supplier Part Number 2: 863-1N5407RL; Packing: Tape and Reel; RoHS: TRUE; Type: Standard Recovery; Mounting Technology: Through Hole; ComponentLink1Description: Manufacturer URL; ComponentLink1URL: http://www.onsemi.com/; ComponentLink2Description: Datasheet; ComponentLink2URL: http://www.onsemi.com/pub_link/Collateral/1N5400-D.PDF; ComponentLink3Description: Package Specification; ComponentLink3URL: http://www.onsemi.com/pub_link/Collateral/267-05.PDF
footprint ONSC-AXIAL_LEAD-2-267-05_V (AXIAL, 2-Leads, Diameter 5.05mm)
pins: 1 K, 2 A

## 1N5407RLG
designator D?
Standard Recovery Rectifier, 2-Pin Axial_Lead, Pb-Free, Tape and Reel; Manufacturer: On Semiconductor; PartNumber: 1N5407RLG; IFSM Max (A): 200; IO(rec) Max (A): 3; VRRM Max (V): 800; DatasheetVersion: Rev. 10; PackageVersion: Rev. G, 06/2000; PackageReference: AXIAL_LEAD-2-267-05; PackageDescription: 2-Pin, Axial Lead, Diameter 5.05 mm; Supplier 1: Digi-Key; Supplier Part Number 1: 1N5407RLGOSTR-ND; Supplier 2: Digi-Key; Supplier Part Number 2: 1N5407RLGOSCT-ND; Supplier 3: Mouser; Supplier Part Number 3: 863-1N5407RLG; Packing: Tape and Reel; RoHS: TRUE; Type: Standard Recovery; Mounting Technology: Through Hole; ComponentLink1Description: Manufacturer URL; ComponentLink1URL: http://www.onsemi.com/; ComponentLink2Description: Datasheet; ComponentLink2URL: http://www.onsemi.com/pub_link/Collateral/1N5400-D.PDF; ComponentLink3Description: Package Specification; ComponentLink3URL: http://www.onsemi.com/pub_link/Collateral/267-05.PDF
footprint ONSC-AXIAL_LEAD-2-267-05_V (AXIAL, 2-Leads, Diameter 5.05mm)
pins: 1 K, 2 A

## 1N5408
designator D?
Standard Recovery Rectifier, 2-Pin Axial_Lead, Pb-Free, Bulk Box; Manufacturer: On Semiconductor; PartNumber: 1N5408; IFSM Max (A): 200; IO(rec) Max (A): 3; VRRM Max (V): 1000; DatasheetVersion: Rev. 10; PackageVersion: Rev. G, 06/2000; PackageReference: AXIAL_LEAD-2-267-05; PackageDescription: 2-Pin, Axial Lead, Diameter 5.05 mm; Supplier 1: Digi-Key; Supplier Part Number 1: 1N5408OS-ND; Packing: Bulk Box; RoHS: TRUE; Type: Standard Recovery; Mounting Technology: Through Hole; ComponentLink1Description: Manufacturer URL; ComponentLink1URL: http://www.onsemi.com/; ComponentLink2Description: Datasheet; ComponentLink2URL: http://www.onsemi.com/pub_link/Collateral/1N5400-D.PDF; ComponentLink3Description: Package Specification; ComponentLink3URL: http://www.onsemi.com/pub_link/Collateral/267-05.PDF
footprint ONSC-AXIAL_LEAD-2-267-05_V (AXIAL, 2-Leads, Diameter 5.05mm)
pins: 1 K, 2 A

## 1N5408G
designator D?
Standard Recovery Rectifier, 2-Pin Axial_Lead, Pb-Free, Bulk Box; Manufacturer: On Semiconductor; PartNumber: 1N5408G; IFSM Max (A): 200; IO(rec) Max (A): 3; VRRM Max (V): 1000; DatasheetVersion: Rev. 10; PackageVersion: Rev. G, 06/2000; PackageReference: AXIAL_LEAD-2-267-05; PackageDescription: 2-Pin, Axial Lead, Diameter 5.05 mm; Supplier 1: Digi-Key; Supplier Part Number 1: 1N5408GOS-ND; Supplier 2: Farnell; Supplier Part Number 2: 1126317; Supplier 3: Newark; Supplier Part Number 3: 42K2941; Supplier 4: Mouser; Supplier Part Number 4: 863-1N5408G; Packing: Bulk Box; RoHS: TRUE; Type: Standard Recovery; Mounting Technology: Through Hole; ComponentLink1Description: Manufacturer URL; ComponentLink1URL: http://www.onsemi.com/; ComponentLink2Description: Datasheet; ComponentLink2URL: http://www.onsemi.com/pub_link/Collateral/1N5400-D.PDF; ComponentLink3Description: Package Specification; ComponentLink3URL: http://www.onsemi.com/pub_link/Collateral/267-05.PDF
footprint ONSC-AXIAL_LEAD-2-267-05_V (AXIAL, 2-Leads, Diameter 5.05mm)
pins: 1 K, 2 A

## 1N5408RL
designator D?
Standard Recovery Rectifier, 2-Pin Axial_Lead, Pb-Free, Tape and Reel; Manufacturer: On Semiconductor; PartNumber: 1N5408RL; IFSM Max (A): 200; IO(rec) Max (A): 3; VRRM Max (V): 1000; DatasheetVersion: Rev. 10; PackageVersion: Rev. G, 06/2000; PackageReference: AXIAL_LEAD-2-267-05; PackageDescription: 2-Pin, Axial Lead, Diameter 5.05 mm; Supplier 1: Digi-Key; Supplier Part Number 1: 1N5408RLOSTR-ND; Supplier 2: Farnell; Supplier Part Number 2: 9556168; Supplier 3: Newark; Supplier Part Number 3: 39K0645; Supplier 4: Mouser; Supplier Part Number 4: 863-1N5408RL; Packing: Tape and Reel; RoHS: TRUE; Type: Standard Recovery; Mounting Technology: Through Hole; ComponentLink1Description: Manufacturer URL; ComponentLink1URL: http://www.onsemi.com/; ComponentLink2Description: Datasheet; ComponentLink2URL: http://www.onsemi.com/pub_link/Collateral/1N5400-D.PDF; ComponentLink3Description: Package Specification; ComponentLink3URL: http://www.onsemi.com/pub_link/Collateral/267-05.PDF
footprint ONSC-AXIAL_LEAD-2-267-05_V (AXIAL, 2-Leads, Diameter 5.05mm)
pins: 1 K, 2 A

## 1N5408RLG
designator D?
Standard Recovery Rectifier, 2-Pin Axial_Lead, Pb-Free, Tape and Reel; Manufacturer: On Semiconductor; PartNumber: 1N5408RLG; IFSM Max (A): 200; IO(rec) Max (A): 3; VRRM Max (V): 1000; DatasheetVersion: Rev. 10; PackageVersion: Rev. G, 06/2000; PackageReference: AXIAL_LEAD-2-267-05; PackageDescription: 2-Pin, Axial Lead, Diameter 5.05 mm; Supplier 1: Digi-Key; Supplier Part Number 1: 1N5408RLGOSTR-ND; Supplier 2: Digi-Key; Supplier Part Number 2: 1N5408RLGOSCT-ND; Supplier 3: Farnell; Supplier Part Number 3: 1278512; Supplier 4: Farnell; Supplier Part Number 4: 1899551; Supplier 5: Newark; Supplier Part Number 5: 42K2942; Supplier 6: Newark; Supplier Part Number 6: 84K8837; Supplier 7: Mouser; Supplier Part Number 7: 863-1N5408RLG; Packing: Tape and Reel; RoHS: TRUE; Type: Standard Recovery; Mounting Technology: Through Hole; ComponentLink1Description: Manufacturer URL; ComponentLink1URL: http://www.onsemi.com/; ComponentLink2Description: Datasheet; ComponentLink2URL: http://www.onsemi.com/pub_link/Collateral/1N5400-D.PDF; ComponentLink3Description: Package Specification; ComponentLink3URL: http://www.onsemi.com/pub_link/Collateral/267-05.PDF
footprint ONSC-AXIAL_LEAD-2-267-05_V (AXIAL, 2-Leads, Diameter 5.05mm)
pins: 1 K, 2 A

## BAT54
designator D?
Supplier 1: Digi-Key; Supplier Part Number 1: BAT54T1GOSTR-ND
footprint SOD-123 (SOD-123, 2-Leads, Body 1.50x3.57mm, IPC Medium Density)
pins: A, K

## BYV32-200
designator D?
SWITCHMODE(TM) Power Rectifier, 3-Pin TO-220, Tube; Manufacturer: On Semiconductor; PartNumber: BYV32-200; IFSM Max (A): 100; Type: Ultrafast; VRRM Max (V): 200; DatasheetVersion: Rev. 4; PackageVersion: Rev. AF; PackageReference: TO-220-3-221A-09_AF; PackageDescription: 3-Pin Flange Mount, Vertical Straight Lead, Body 9.97 x 4.445 mm, Pitch 2.54 mm; Supplier 1: Digi-Key; Supplier Part Number 1: BYV32-200-ND; Packing: Tube; RoHS: FALSE; Mounting Technology: Through Hole; ComponentLink1Description: Manufacturer URL; ComponentLink1URL: http://www.onsemi.com/; ComponentLink2Description: Datasheet; ComponentLink2URL: http://www.onsemi.com/pub_link/Collateral/BYV32-200-D.PDF; ComponentLink3Description: Package Specification; ComponentLink3URL: http://www.onsemi.cn/pub_link/Collateral/MCR8S-D.PDF
footprint ONSC-TO-220-3-221A-09_AF (FM, 3-Leads, Body 10.3x4.85mm, Pitch 2.54mm)
pins: 1 A1, 2 K, 3 A2

## BYV32-200G
designator D?
SWITCHMODE(TM) Power Rectifier, 3-Pin TO-220, Pb-Free, Tube; Manufacturer: On Semiconductor; PartNumber: BYV32-200G; IFSM Max (A): 100; Type: Ultrafast; VRRM Max (V): 200; DatasheetVersion: Rev. 4; PackageVersion: Rev. AF; PackageReference: TO-220-3-221A-09_AF; PackageDescription: 3-Pin Flange Mount, Vertical Straight Lead, Body 9.97 x 4.445 mm, Pitch 2.54 mm; Supplier 1: Digi-Key; Supplier Part Number 1: BYV32-200GOS-ND; Supplier 2: Farnell; Supplier Part Number 2: 2317407; Supplier 3: Newark; Supplier Part Number 3: 90W4322; Supplier 4: Newark; Supplier Part Number 4: 26K3558; Supplier 5: Mouser; Supplier Part Number 5: 863-BYV32-200G; Packing: Tube; RoHS: TRUE; Mounting Technology: Through Hole; ComponentLink1Description: Manufacturer URL; ComponentLink1URL: http://www.onsemi.com/; ComponentLink2Description: Datasheet; ComponentLink2URL: http://www.onsemi.com/pub_link/Collateral/BYV32-200-D.PDF; ComponentLink3Description: Package Specification; ComponentLink3URL: http://www.onsemi.cn/pub_link/Collateral/MCR8S-D.PDF
footprint ONSC-TO-220-3-221A-09_AF (FM, 3-Leads, Body 10.3x4.85mm, Pitch 2.54mm)
pins: 1 A1, 2 K, 3 A2

## BYW29-200
designator D?
SWITCHMODE(TM) Power Rectifier, 2-Pin TO-220, Tube; Manufacturer: On Semiconductor; PartNumber: BYW29-200; Note: 0; IFSM Max (A): 100; Type: Ultrafast; VRRM Max (V): 200; DatasheetVersion: Rev. 2; PackageVersion: Rev. E; PackageReference: TO-220-2-221B-04_E; PackageDescription: 2-Pin Flange Mount, Vertical Straight Lead, Body 9.97 x 4.44 mm, Pitch 5.08 mm; Packing: Tube; RoHS: FALSE; Mounting Technology: Through Hole; ComponentLink1Description: Manufacturer URL; ComponentLink1URL: http://www.onsemi.com/; ComponentLink2Description: Datasheet; ComponentLink2URL: http://www.onsemi.com/pub_link/Collateral/BYW29-D.PDF; ComponentLink3Description: Package Specification; ComponentLink3URL: http://www.onsemi.com/pub_link/Collateral/BYW29-D.PDF
footprint ONSC-TO-220-2-221B-04_E (FM, 2-Leads, Body 10.3x4.85mm, Pitch 5.08mm)
pins: 1 K, 3 A

## BYW29-200G
designator D?
SWITCHMODE(TM) Power Rectifier, 2-Pin TO-220, Pb-Free, Tube; Manufacturer: On Semiconductor; PartNumber: BYW29-200G; IFSM Max (A): 100; Type: Ultrafast; VRRM Max (V): 200; DatasheetVersion: Rev. 2; PackageVersion: Rev. E; PackageReference: TO-220-2-221B-04_E; PackageDescription: 2-Pin Flange Mount, Vertical Straight Lead, Body 9.97 x 4.44 mm, Pitch 5.08 mm; Supplier 1: Digi-Key; Supplier Part Number 1: BYW29-200GOS-ND; Supplier 2: Farnell; Supplier Part Number 2: 2101173; Supplier 3: Newark; Supplier Part Number 3: 26K3559; Supplier 4: Mouser; Supplier Part Number 4: 863-BYW29-200G; Packing: Tube; RoHS: TRUE; Mounting Technology: Through Hole; ComponentLink1Description: Manufacturer URL; ComponentLink1URL: http://www.onsemi.com/; ComponentLink2Description: Datasheet; ComponentLink2URL: http://www.onsemi.com/pub_link/Collateral/BYW29-D.PDF; ComponentLink3Description: Package Specification; ComponentLink3URL: http://www.onsemi.com/pub_link/Collateral/BYW29-D.PDF
footprint ONSC-TO-220-2-221B-04_E (FM, 2-Leads, Body 10.3x4.85mm, Pitch 5.08mm)
pins: 1 K, 3 A